# Altium footprint library FUSE_10X38.PcbLib: 1 footprints
Each footprint in its own frame and in the unit in brackets; x right, y up, seen from the top. Pads: shape width x height; smd on the part's side, far side on the other; paste and mask are expansions set on the pad; w line width, h text height; cw(c..) or ccw(c..) is an arc to the next point about the centre after c.
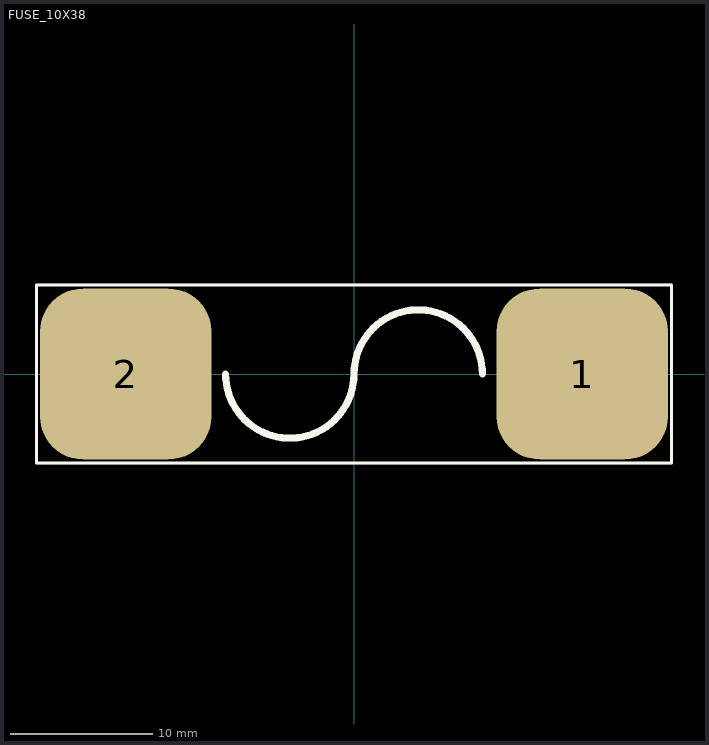
[diagram p0: the footprint, top view; thin cyan lines are the x and y axes]

## FUSE_10X38 [mm]
pads (2):
  rrect50% 12x12 smd: 1(16,0) 2(-16,0)
Top Overlay:
  lines w0.2: -22.25,-6.25 -22.25,6.25 22.25,6.25 22.25,-6.25 -22.25,-6.25
  lines w0.5: -9,0 ccw(c-4.5,0) 0,0 cw(c4.5,0) 9,0
Top Courtyard:
  lines w0.1: -22.3,-6.3 -22.3,6.3 22.3,6.3 22.3,-6.3 -22.3,-6.3
3D body "dmm-b-11a.stp": height 10.35, standoff 0.05, extent -19.05,-5.15 19.05,5.15